# EAGLE library part MC34063_MC34063 (library Socik)
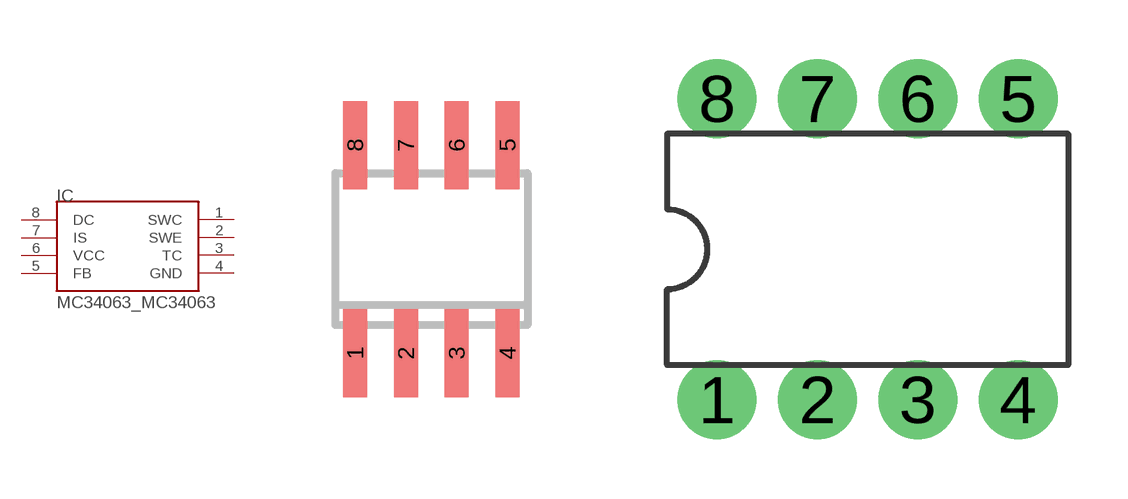
[diagram p0: symbol with the pads of MC34063_SOIC8; footprints MC34063_SOIC8, MC34063_DIL08]

Designator prefix IC

## MC34063_MC34063AD  [MC34063_SOIC8]
1  SWC  pas
2  SWE  pas
3  TC  pas
4  GND  pas
5  FB  pas
6  VCC  pas
7  IS  pas
8  DC  pas

## MC34063_MC34063AP  [MC34063_DIL08]
Pads as for MC34063_SOIC8

## Footprint MC34063_SOIC8 (pad centres in mm)
Small Outline IC
smd 0.6 x 2.2: 1 -1.905,-2.6; 2 -0.635,-2.6; 3 0.635,-2.6; 4 1.905,-2.6; 5 1.905,2.6; 6 0.635,2.6; 7 -0.635,2.6; 8 -1.905,2.6

## Footprint MC34063_DIL08 (pad centres in mm)
Dual In Line Package
drill 0.8 pad 2: 1 -3.81,-3.81; 2 -1.27,-3.81; 3 1.27,-3.81; 4 3.81,-3.81; 5 3.81,3.81; 6 1.27,3.81; 7 -1.27,3.81; 8 -3.81,3.81